# Altium footprint library Embedded MCU, Boards.PcbLib: 1 footprints
Each footprint in its own frame and in the unit in brackets; x right, y up, seen from the top. Pads: shape width x height; smd on the part's side, far side on the other; paste and mask are expansions set on the pad; w line width, h text height; cw(c..) or ccw(c..) is an arc to the next point about the centre after c.
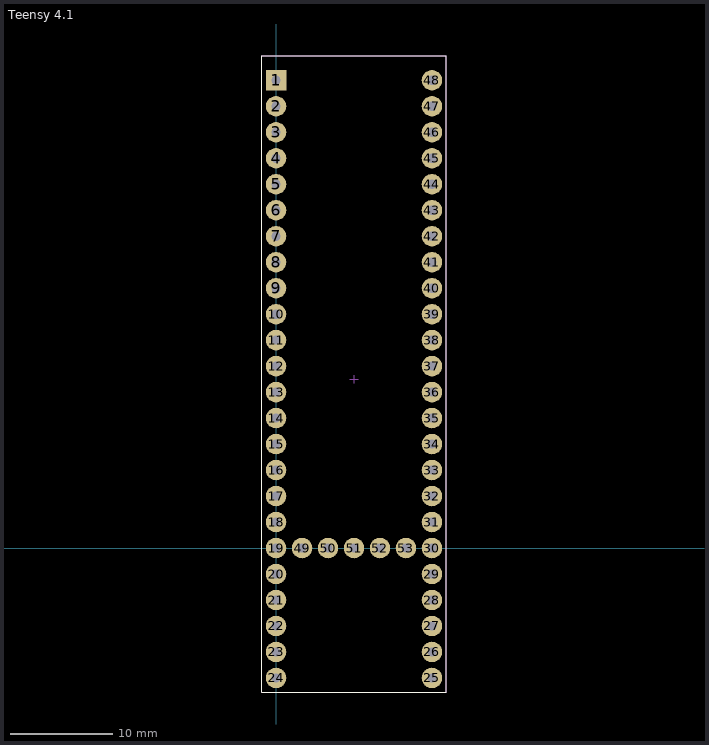
[diagram p0: the footprint, top view; thin cyan lines are the x and y axes]

## Teensy 4.1 [mm]
pads (53):
  rect 2x2 hole 0.9: 1(0,45.72)
  round 2 hole 0.9: 2(0,43.18) 3(0,40.64) 4(0,38.1) 5(0,35.56) 6(0,33.02) 7(0,30.48) 8(0,27.94) 9(0,25.4) 10(0,22.86) 11(0,20.32) 12(0,17.78) 13(0,15.24) 14(0,12.7) 15(0,10.16) 16(0,7.62) 17(0,5.08) 18(0,2.54) 19(0,0) 20(0,-2.54) 21(0,-5.08) 22(0,-7.62) 23(0,-10.16) 24(0,-12.7) 25(15.24,-12.7) 26(15.24,-10.16) 27(15.24,-7.62) 28(15.24,-5.08) 29(15.24,-2.54) 30(15.24,0) 31(15.24,2.54) 32(15.24,5.08) 33(15.24,7.62) 34(15.24,10.16) 35(15.24,12.7) 36(15.24,15.24) 37(15.24,17.78) 38(15.24,20.32) 39(15.24,22.86) 40(15.24,25.4) 41(15.24,27.94) 42(15.24,30.48) 43(15.24,33.02) 44(15.24,35.56) 45(15.24,38.1) 46(15.24,40.64) 47(15.24,43.18) 48(15.24,45.72) 49(2.54,0) 50(5.08,0) 51(7.62,0) 52(10.16,0) 53(12.7,0)
Top Overlay:
  lines w0.05: -1.38,-14.09 -1.38,48.11 16.62,48.11 16.62,-14.09 -1.38,-14.09
Top Component Center:
  lines w0.05: 7.22,16.51 8.02,16.51 ; 7.62,16.11 7.62,16.91 ; -1.38,-14.09 16.62,-14.09 16.62,48.11 -1.38,48.11 -1.38,-14.09
Top Designator:
  lines w0.05: -1.38,-14.09 16.62,-14.09 16.62,48.11 -1.38,48.11 -1.38,-14.09
  text ".Designator" at 8.508,31.202 h1.52
3D body "Pin Header  2.54-05.stp": height 6.87, standoff -6.63, extent 1.304,-1.339 14.004,1.201
3D body "HeaderPin Male 4x2.54.STEP": height 6.05, standoff -5.89, extent 13.97,-13.97 16.51,-3.81
3D body "HeaderPin Male 4x2.54.STEP": height 6.05, standoff -5.89, extent 13.97,-3.81 16.51,6.35
3D body "HeaderPin Male 4x2.54.STEP": height 6.05, standoff -5.89, extent 13.97,6.35 16.51,16.51
3D body "HeaderPin Male 4x2.54.STEP": height 6.05, standoff -5.89, extent 13.97,16.51 16.51,26.67
3D body "HeaderPin Male 4x2.54.STEP": height 6.05, standoff -5.89, extent 13.97,26.67 16.51,36.83
3D body "HeaderPin Male 4x2.54.STEP": height 6.05, standoff -5.89, extent 13.97,36.83 16.51,46.99
3D body "HeaderPin Male 4x2.54.STEP": height 6.05, standoff -5.89, extent -1.27,-13.97 1.27,-3.81
3D body "HeaderPin Male 4x2.54.STEP": height 6.05, standoff -5.89, extent -1.27,-3.81 1.27,6.35
3D body "HeaderPin Male 4x2.54.STEP": height 6.05, standoff -5.89, extent -1.27,6.35 1.27,16.51
3D body "HeaderPin Male 4x2.54.STEP": height 6.05, standoff -5.89, extent -1.27,16.51 1.27,26.67
3D body "HeaderPin Male 4x2.54.STEP": height 6.05, standoff -5.89, extent -1.27,26.67 1.27,36.83
3D body "HeaderPin Male 4x2.54.STEP": height 6.05, standoff -5.89, extent -1.27,36.83 1.27,46.99
3D body "Teensy 4.1.STEP": height 7.47, standoff 2.21, extent -1.27,-13.876 16.51,48.01